# EAGLE library part SK9822 (library Opto-electronics > LED Emitters)
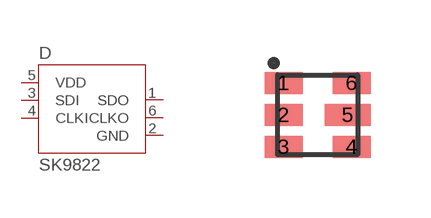
[diagram p1: symbol with the pads of 2020; footprint 2020]

Designator prefix D

## SK9822  [2020]
1  SDO
2  GND
3  SDI
4  CLKI
5  VDD
6  CLKO

## Footprint 2020 (pad centres in mm)
smd 0.95 x 0.55: 1 -0.85,0.8; 2 -0.85,0; 3 -0.85,-0.8; 4 0.85,-0.8; 6 0.85,0.8
smd 1.15 x 0.55: 5 0.75,0